# Altium schematic symbol library SPI.SchLib: 1 symbol
Pins are listed as number, name and electrical type; pins without a type are passive.

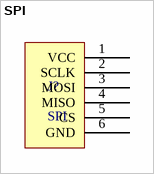
[diagram p0: symbol SPI]

## SPI
designator J?
footprint SPI Breakout (Flash Connection Point)
pins: 1 VCC, 2 SCLK, 3 MOSI, 4 MISO, 5 CS, 6 GND